# Altium footprint library PDS1-S5-S3-S.PcbLib: 2 footprints
Each footprint in its own frame and in the unit in brackets; x right, y up, seen from the top. Pads: shape width x height; smd on the part's side, far side on the other; paste and mask are expansions set on the pad; w line width, h text height; cw(c..) or ccw(c..) is an arc to the next point about the centre after c.
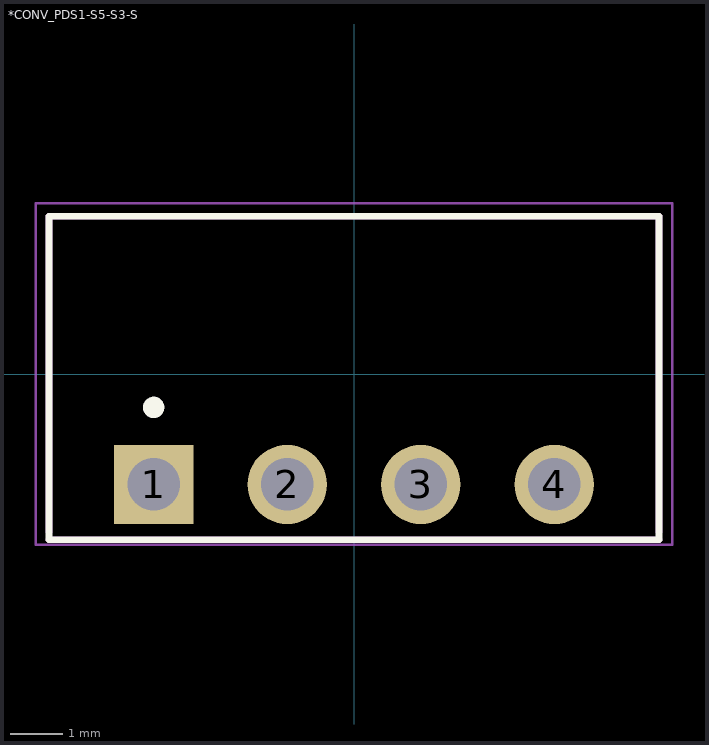
[diagram p0: the footprints below, top view; thin cyan lines are the x and y axes]

## *CONV_PDS1-S5-S3-S [mm]
pads (4):
  rect 1.508x1.508 hole 1: 1(-3.81,-2.1)
  round 1.508 hole 1: 2(-1.27,-2.1) 3(1.27,-2.1) 4(3.81,-2.1)
Top Overlay:
  circle w0.203: c-3.81,-0.635 r0.102
  lines w0.127: -5.8,-3.15 5.8,-3.15 5.8,3 -5.8,3 -5.8,-3.15
Mechanical 4:
  circle w0.4: c-3.75,-2.06 r0.2
  circle w0.4: c-3.75,-2.06 r0.2
  lines w0.127: -5.8,3 5.8,3 ; -5.8,3 -5.8,-3 -5.8,3 ; -5.8,3 5.8,3 ; 5.8,3 5.8,-3 5.8,3 ; -5.8,-3.15 5.8,-3.15 -5.8,-3.15
Mechanical 16:
  lines w0.05: -6.05,-3.25 6.05,-3.25 6.05,3.25 -6.05,3.25 -6.05,-3.25
3D body "CUI_PDS1-S5-S3-S.step": height 10.11, standoff -4.09, extent -5.8,-3.048 5.8,2.952

## PCBComponent_1 [mm]